# EAGLE library part AMP-LMV722-Q1 (library DSP_PID)
DUAL 10-MHz Low-Noise, Low-Voltage Operational Amplifier
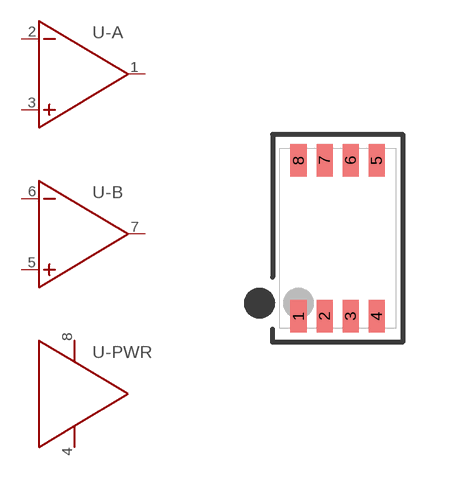
[diagram p3: symbol with the pads of TSSOP-8; footprint TSSOP-8]

Designator prefix U; gates -A=OPAMP -B=OPAMP -PWR=AMP-PWR

## AMP-LMV722-Q1  [TSSOP-8]
1  -A:OUT  pas
2  -A:-  pas
3  -A:+  pas
4  -PWR:V-  pas
5  -B:+  pas
6  -B:-  pas
7  -B:OUT  pas
8  -PWR:V+  pas

## Footprint TSSOP-8 (pad centres in mm)
8-PIN VSSOP/TSSOP/MSOP
smd 0.4 x 0.8: 1 -0.975,-1.95; 2 -0.325,-1.95; 3 0.325,-1.95; 4 0.975,-1.95; 5 0.975,1.95; 6 0.325,1.95; 7 -0.325,1.95; 8 -0.975,1.95